# Altium schematic symbol library SnapEDAsch.SchLib: 1 symbol
Pins are listed as number, name and electrical type; pins without a type are passive.

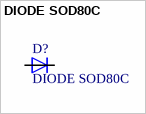
[diagram p0: symbol DIODE SOD80C]

## DIODE SOD80C
designator D?
Diode Standard 75V 200mA _DC_ Surface Mount LLDS; MiniMelf DIODE SOD80C PMLL4148L; MF: Nexperia USA; Value: *; Price: None; Package: SOD-80 NXP Semiconductors; SnapEDA_Link: https://www.snapeda.com/parts/PMLL4148L/Nexperia%20USA%20Inc./view-part/9225/?ref=snap; Availability: Unavailable; MP: PMLL4148L
footprint SOD80C
pins: 1 K, 2 A